# Altium schematic symbol library kmilo17pet-TI_MSP430.SchLib: 1463 symbols (part 109 of 130)
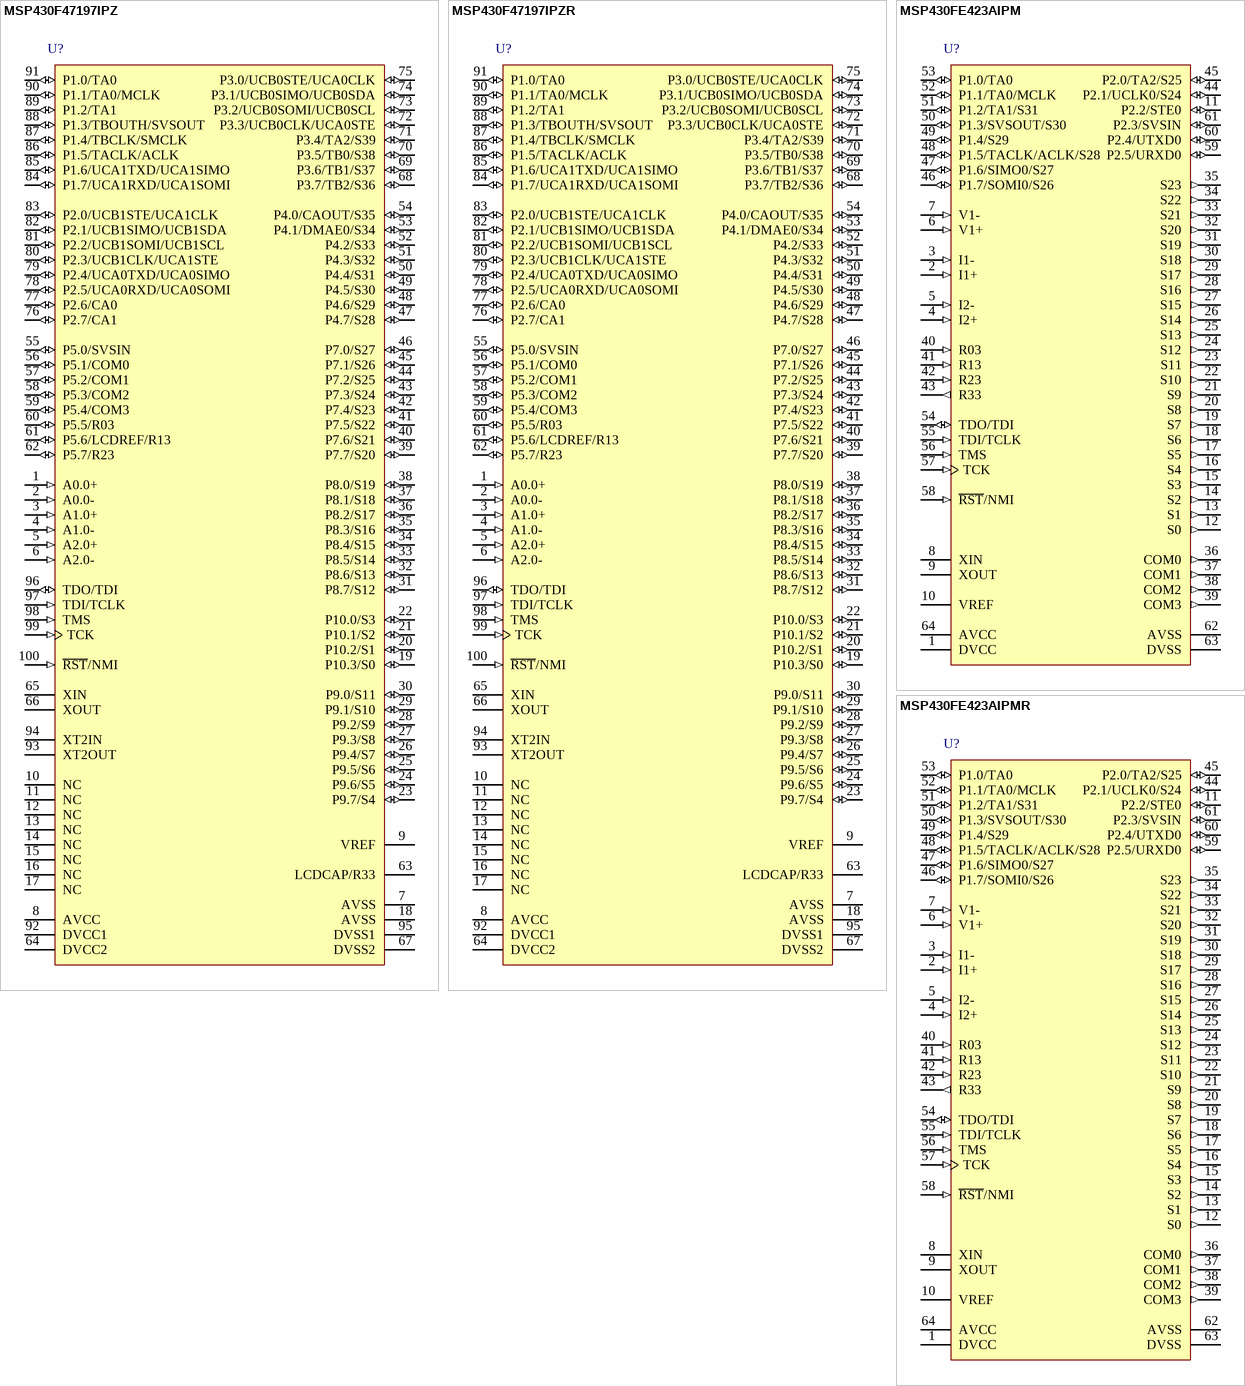
[diagram p290: symbols MSP430F47197IPZ to MSP430FE423AIPMR]

## MSP430FE423AIPMR
designator U?
8 MHz Mixed Signal Microcontroller with 8 KB Flash, 256 B SRAM and 14 GPIOs, -40 to 85 degC, 64-pin QFP (PM), Green (RoHS & no Sb/Br); Manufacturer: Texas Instruments; PartNumber: MSP430FE423AIPMR; ADC: 16-bit Sigma Delta; Brown Out Reset: Yes; Flash(KB): 8; GPIO: 14; LCD Segments: 128; Multiplier: 16x16; SRAM(B): 256; SubFamily: 4 Series with LCD; Timers - 16-bit: 1; DatasheetVersion: SLAS588; PackageVersion: 4040152/C; PackageReference: PM64; PackageDescription: 64-Pin Plastic Quad Flat Pack, Body 10 x 10 mm, Pitch 0.5 mm; Supplier 1: Digi-Key; Supplier Part Number 1: 296-32672-ND; Supplier 2: Newark; Supplier Part Number 2: 84M9627; Supplier 3: Mouser; Supplier Part Number 3: 595-MSP430FE423AIPM; Eco-Plan: Green (RoHS & no Sb/Br); Frequency(MHz): 8; SVS: Yes; USART: 1; Watchdog: Yes; Mounting Technology: Surface Mount; Code_JEDEC: MS-026; ComponentLink1Description: Manufacturer URL; ComponentLink1URL: http://www.ti.com/; ComponentLink2Description: Datasheet; ComponentLink2URL: http://www.ti.com/general/docs/lit/getliterature.tsp?genericPartNumber=MSP430FE423A&fileType=pdf; ComponentLink3Description: Package Specification; ComponentLink3URL: http://www.ti.com/lit/ml/mtqf008a/mtqf008a.pdf
footprint TI-PM64_N (QFP, 64-Leads, Body 10x10mm, Pitch 0.5mm, IPC Medium Density)
pins: 1 DVCC (power) "Digital supply voltage, positive terminal.", 2 I1+ (in) "Current 1 positive analog input. Internal connection to SD16 Channel 0 A0+.", 3 I1- (in) "Current 1 negative analog input. Internal connection to SD16 Channel 0 A0-.", 4 I2+ (in) "Current 2 positive analog input. Internal connection to SD16 Channel 1 A0+.", 5 I2- (in) "Current 2 negative analog input. Internal connection to SD16 Channel 1 A0-.", 6 V1+ (in) "Voltage 1 positive analog input. Internal connection to SD16 Channel 1 A0+.", 7 V1- (in) "Voltage 1 negative analog input. Internal connection to SD16 Channel 1 A0-.", 8 XIN "Input port for crystal oscillator XT1. Standard or watch crystals can be connected.", 9 XOUT "Output terminal of crystal oscillator XT1", 10 VREF "Input for an external reference voltage / internal reference voltage output (can be used as mid-voltage)", 11 P2.2/STE0 (io), 12 S0 (out) "LCD segment output 0", 13 S1 (out) "LCD segment output 1", 14 S2 (out) "LCD segment output 2", 15 S3 (out) "LCD segment output 3", 16 S4 (out) "LCD segment output 4", 17 S5 (out) "LCD segment output 5", 18 S6 (out) "LCD segment output 6", 19 S7 (out) "LCD segment output 7", 20 S8 (out) "LCD segment output 8", 21 S9 (out) "LCD segment output 9", 22 S10 (out) "LCD segment output 10", 23 S11 (out) "LCD segment output 11", 24 S12 (out) "LCD segment output 12", 25 S13 (out) "LCD segment output 13", 26 S14 (out) "LCD segment output 14", 27 S15 (out) "LCD segment output 15", 28 S16 (out) "LCD segment output 16", 29 S17 (out) "LCD segment output 17", 30 S18 (out) "LCD segment output 18", 31 S19 (out) "LCD segment output 19", 32 S20 (out) "LCD segment output 20", 33 S21 (out) "LCD segment output 21", 34 S22 (out) "LCD segment output 22", 35 S23 (out) "LCD segment output 23", 36 COM0 (out) "Common output, COM0-3 are used for LCD backplanes.", 37 COM1 (out) "Common output, COM0-3 are used for LCD backplanes.", 38 COM2 (out) "Common output, COM0-3 are used for LCD backplanes.", 39 COM3 (out) "Common output, COM0-3 are used for LCD backplanes.", 40 R03 (in) "Input port of fourth positive (lowest) analog LCD level (V5)", 41 R13 (in) "Input port of third most positive analog LCD level (V4 or V3)", 42 R23 (in) "Input port of second most positive analog LCD level (V2)", 43 R33 (out) "Output port of most positive analog LCD level (V1)", 44 P2.1/UCLK0/S24 (io), 45 P2.0/TA2/S25 (io), 46 P1.7/SOMI0/S26 (io), 47 P1.6/SIMO0/S27 (io), 48 P1.5/TACLK/ACLK/S28 (io), 49 P1.4/S29 (io), 50 P1.3/SVSOUT/S30 (io), 51 P1.2/TA1/S31 (io), 52 P1.1/TA0/MCLK (io), 53 P1.0/TA0 (io), 54 TDO/TDI (io), 55 TDI/TCLK (in), 56 TMS (in) "Test mode select. TMS is used as an input port for device programming and test.", 57 TCK (in) "Test clock. TCK is the clock input port for device programming and test.", 58 ~{RST}/NMI (in), 59 P2.5/URXD0 (io), 60 P2.4/UTXD0 (io), 61 P2.3/SVSIN (io), 62 AVSS (power) "Analog supply voltage, negative terminal. Supplies SD16, SVS, brownout, oscillator, and LCD resistive divider circuitry.", 63 DVSS (power) "Digital supply voltage, negative terminal", 64 AVCC (power) "Analog supply voltage, positive terminal. Supplies SD16, SVS, brownout, oscillator, and LCD resistive divider circuitry; must not power up prior to DVCC."

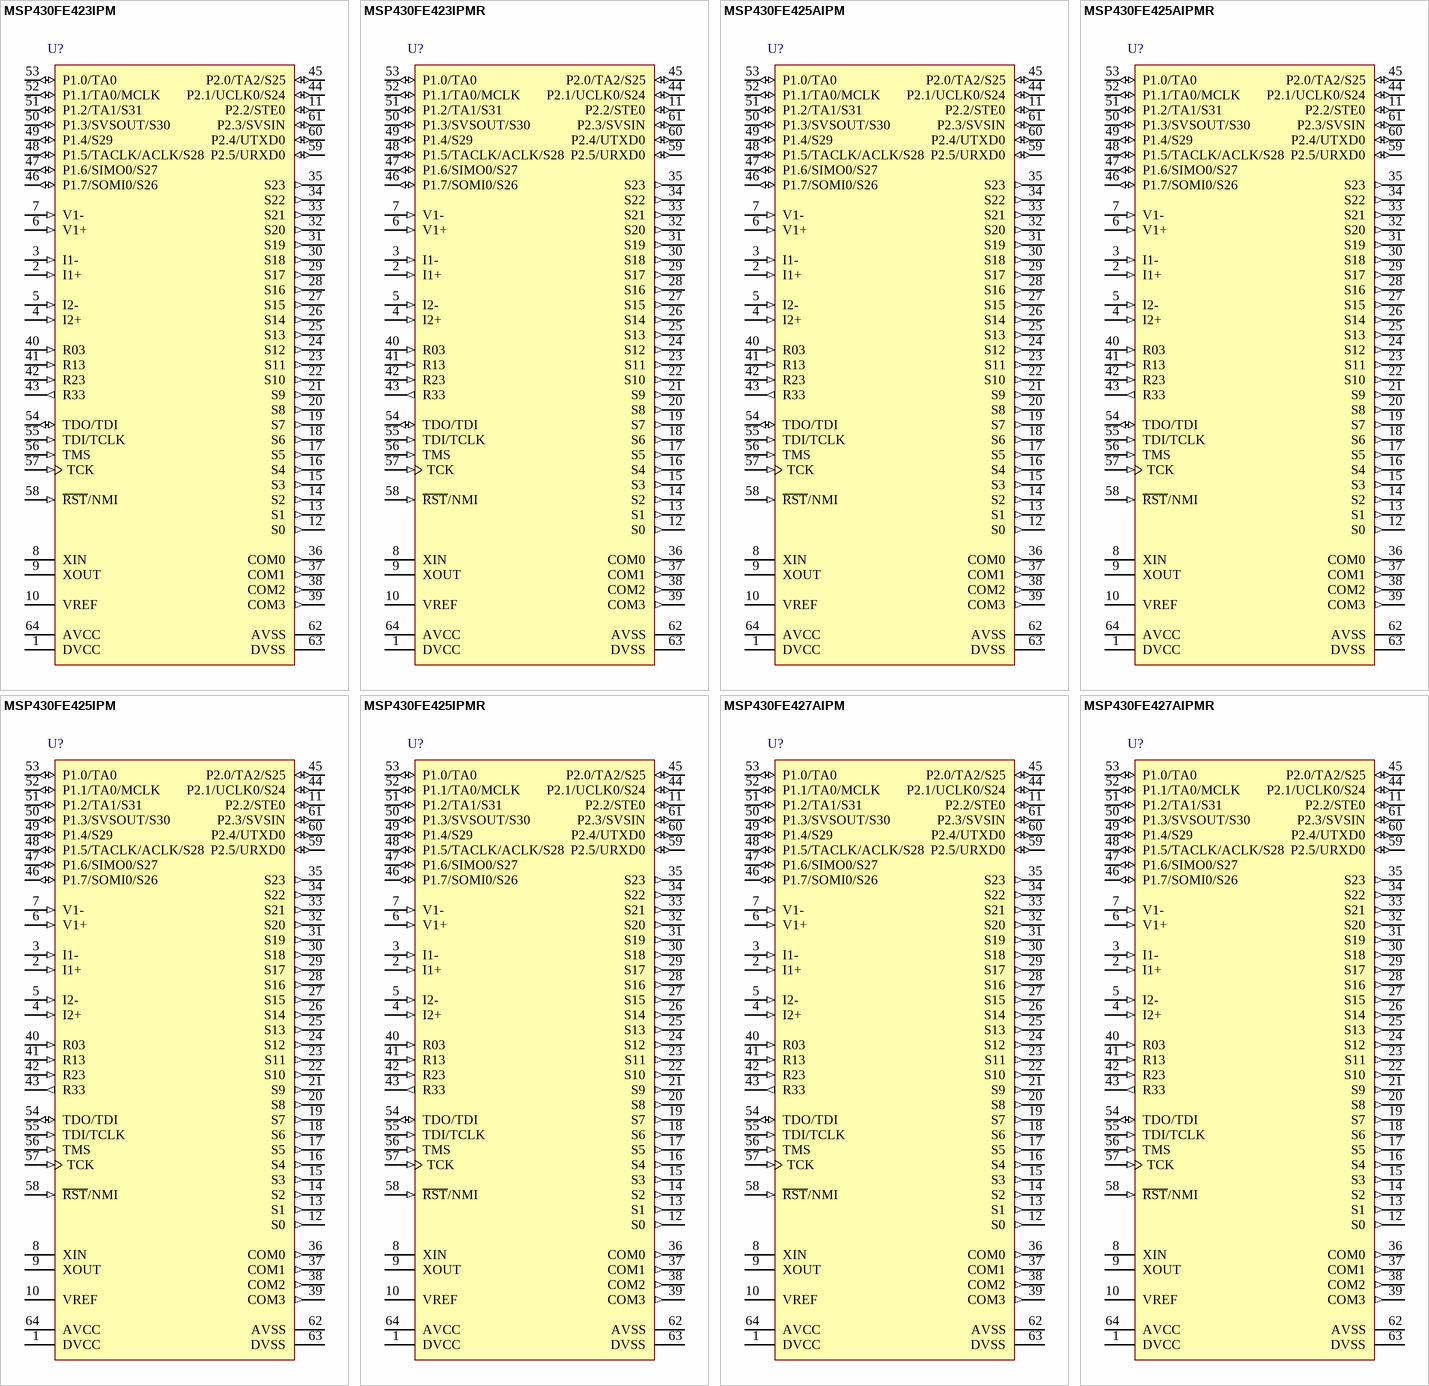
[diagram p184: symbols MSP430FE423IPM to MSP430FE427AIPMR]

## MSP430FE423IPM
designator U?
8 MHz Mixed Signal Microcontroller with 8 KB Flash, 256 B SRAM and 14 GPIOs, -40 to 85 degC, 64-pin QFP (PM), Green (RoHS & no Sb/Br); Manufacturer: Texas Instruments; PartNumber: MSP430FE423IPM; ADC: 16-bit Sigma Delta; Brown Out Reset: Yes; Flash(KB): 8; GPIO: 14; LCD Segments: 128; SRAM(B): 256; SubFamily: 4 Series with LCD; Timers - 16-bit: 1; DatasheetVersion: SLAS396C; PackageVersion: 4040152/C; PackageReference: PM64; PackageDescription: 64-Pin Plastic Quad Flat Pack, Body 10 x 10 mm, Pitch 0.5 mm; Supplier 1: Digi-Key; Supplier Part Number 1: 296-24723-2-ND; Supplier 2: Digi-Key; Supplier Part Number 2: 296-24723-1-ND; Supplier 3: Digi-Key; Supplier Part Number 3: 296-24723-6-ND; Supplier 4: Newark; Supplier Part Number 4: 84M9628; Supplier 5: Mouser; Supplier Part Number 5: 595-MSP430FE423AIPMR; Eco-Plan: Green (RoHS & no Sb/Br); Frequency(MHz): 8; SVS: Yes; Mounting Technology: Surface Mount; Code_JEDEC: MS-026; ComponentLink1Description: Manufacturer URL; ComponentLink1URL: http://www.ti.com/; ComponentLink2Description: Datasheet; ComponentLink2URL: http://www.ti.com/general/docs/lit/getliterature.tsp?genericPartNumber=MSP430FE423&fileType=pdf; ComponentLink3Description: Package Specification; ComponentLink3URL: http://www.ti.com/lit/ml/mtqf008a/mtqf008a.pdf
footprint TI-PM64_N (QFP, 64-Leads, Body 10x10mm, Pitch 0.5mm, IPC Medium Density)
pins: 1 DVCC (power) "Digital supply voltage, positive terminal.", 2 I1+ (in) "Current 1 positive analog input. Internal connection to SD16 Channel 0 A0+.", 3 I1- (in) "Current 1 negative analog input. Internal connection to SD16 Channel 0 A0-.", 4 I2+ (in) "Current 2 positive analog input. Internal connection to SD16 Channel 1 A0+.", 5 I2- (in) "Current 2 negative analog input. Internal connection to SD16 Channel 1 A0-.", 6 V1+ (in) "Voltage 1 positive analog input. Internal connection to SD16 Channel 1 A0+.", 7 V1- (in) "Voltage 1 negative analog input. Internal connection to SD16 Channel 1 A0-.", 8 XIN "Input port for crystal oscillator XT1. Standard or watch crystals can be connected.", 9 XOUT "Output terminal of crystal oscillator XT1", 10 VREF "Input for an external reference voltage / internal reference voltage output (can be used as mid-voltage)", 11 P2.2/STE0 (io), 12 S0 (out) "LCD segment output 0", 13 S1 (out) "LCD segment output 1", 14 S2 (out) "LCD segment output 2", 15 S3 (out) "LCD segment output 3", 16 S4 (out) "LCD segment output 4", 17 S5 (out) "LCD segment output 5", 18 S6 (out) "LCD segment output 6", 19 S7 (out) "LCD segment output 7", 20 S8 (out) "LCD segment output 8", 21 S9 (out) "LCD segment output 9", 22 S10 (out) "LCD segment output 10", 23 S11 (out) "LCD segment output 11", 24 S12 (out) "LCD segment output 12", 25 S13 (out) "LCD segment output 13", 26 S14 (out) "LCD segment output 14", 27 S15 (out) "LCD segment output 15", 28 S16 (out) "LCD segment output 16", 29 S17 (out) "LCD segment output 17", 30 S18 (out) "LCD segment output 18", 31 S19 (out) "LCD segment output 19", 32 S20 (out) "LCD segment output 20", 33 S21 (out) "LCD segment output 21", 34 S22 (out) "LCD segment output 22", 35 S23 (out) "LCD segment output 23", 36 COM0 (out) "Common output, COM0-3 are used for LCD backplanes.", 37 COM1 (out) "Common output, COM0-3 are used for LCD backplanes.", 38 COM2 (out) "Common output, COM0-3 are used for LCD backplanes.", 39 COM3 (out) "Common output, COM0-3 are used for LCD backplanes.", 40 R03 (in) "Input port of fourth positive (lowest) analog LCD level (V5)", 41 R13 (in) "Input port of third most positive analog LCD level (V4 or V3)", 42 R23 (in) "Input port of second most positive analog LCD level (V2)", 43 R33 (out) "Output port of most positive analog LCD level (V1)", 44 P2.1/UCLK0/S24 (io), 45 P2.0/TA2/S25 (io), 46 P1.7/SOMI0/S26 (io), 47 P1.6/SIMO0/S27 (io), 48 P1.5/TACLK/ACLK/S28 (io), 49 P1.4/S29 (io), 50 P1.3/SVSOUT/S30 (io), 51 P1.2/TA1/S31 (io), 52 P1.1/TA0/MCLK (io), 53 P1.0/TA0 (io), 54 TDO/TDI (io), 55 TDI/TCLK (in), 56 TMS (in) "Test mode select. TMS is used as an input port for device programming and test.", 57 TCK (in) "Test clock. TCK is the clock input port for device programming and test.", 58 ~{RST}/NMI (in), 59 P2.5/URXD0 (io), 60 P2.4/UTXD0 (io), 61 P2.3/SVSIN (io), 62 AVSS (power) "Analog supply voltage, negative terminal. Supplies SD16, SVS, brownout, oscillator, and LCD resistive divider circuitry.", 63 DVSS (power) "Digital supply voltage, negative terminal", 64 AVCC (power) "Analog supply voltage, positive terminal. Supplies SD16, SVS, brownout, oscillator, and LCD resistive divider circuitry; must not power up prior to DVCC."

## MSP430FE423IPMR
designator U?
8 MHz Mixed Signal Microcontroller with 8 KB Flash, 256 B SRAM and 14 GPIOs, -40 to 85 degC, 64-pin QFP (PM), Green (RoHS & no Sb/Br); Manufacturer: Texas Instruments; PartNumber: MSP430FE423IPMR; ADC: 16-bit Sigma Delta; Brown Out Reset: Yes; Flash(KB): 8; GPIO: 14; LCD Segments: 128; SRAM(B): 256; SubFamily: 4 Series with LCD; Timers - 16-bit: 1; DatasheetVersion: SLAS396C; PackageVersion: 4040152/C; PackageReference: PM64; PackageDescription: 64-Pin Plastic Quad Flat Pack, Body 10 x 10 mm, Pitch 0.5 mm; Supplier 1: Digi-Key; Supplier Part Number 1: 296-16991-ND; Supplier 2: Mouser; Supplier Part Number 2: 595-430FE423IPM; Eco-Plan: Green (RoHS & no Sb/Br); Frequency(MHz): 8; SVS: Yes; Mounting Technology: Surface Mount; Code_JEDEC: MS-026; ComponentLink1Description: Manufacturer URL; ComponentLink1URL: http://www.ti.com/; ComponentLink2Description: Datasheet; ComponentLink2URL: http://www.ti.com/general/docs/lit/getliterature.tsp?genericPartNumber=MSP430FE423&fileType=pdf; ComponentLink3Description: Package Specification; ComponentLink3URL: http://www.ti.com/lit/ml/mtqf008a/mtqf008a.pdf
footprint TI-PM64_N (QFP, 64-Leads, Body 10x10mm, Pitch 0.5mm, IPC Medium Density)
pins: 1 DVCC (power) "Digital supply voltage, positive terminal.", 2 I1+ (in) "Current 1 positive analog input. Internal connection to SD16 Channel 0 A0+.", 3 I1- (in) "Current 1 negative analog input. Internal connection to SD16 Channel 0 A0-.", 4 I2+ (in) "Current 2 positive analog input. Internal connection to SD16 Channel 1 A0+.", 5 I2- (in) "Current 2 negative analog input. Internal connection to SD16 Channel 1 A0-.", 6 V1+ (in) "Voltage 1 positive analog input. Internal connection to SD16 Channel 1 A0+.", 7 V1- (in) "Voltage 1 negative analog input. Internal connection to SD16 Channel 1 A0-.", 8 XIN "Input port for crystal oscillator XT1. Standard or watch crystals can be connected.", 9 XOUT "Output terminal of crystal oscillator XT1", 10 VREF "Input for an external reference voltage / internal reference voltage output (can be used as mid-voltage)", 11 P2.2/STE0 (io), 12 S0 (out) "LCD segment output 0", 13 S1 (out) "LCD segment output 1", 14 S2 (out) "LCD segment output 2", 15 S3 (out) "LCD segment output 3", 16 S4 (out) "LCD segment output 4", 17 S5 (out) "LCD segment output 5", 18 S6 (out) "LCD segment output 6", 19 S7 (out) "LCD segment output 7", 20 S8 (out) "LCD segment output 8", 21 S9 (out) "LCD segment output 9", 22 S10 (out) "LCD segment output 10", 23 S11 (out) "LCD segment output 11", 24 S12 (out) "LCD segment output 12", 25 S13 (out) "LCD segment output 13", 26 S14 (out) "LCD segment output 14", 27 S15 (out) "LCD segment output 15", 28 S16 (out) "LCD segment output 16", 29 S17 (out) "LCD segment output 17", 30 S18 (out) "LCD segment output 18", 31 S19 (out) "LCD segment output 19", 32 S20 (out) "LCD segment output 20", 33 S21 (out) "LCD segment output 21", 34 S22 (out) "LCD segment output 22", 35 S23 (out) "LCD segment output 23", 36 COM0 (out) "Common output, COM0-3 are used for LCD backplanes.", 37 COM1 (out) "Common output, COM0-3 are used for LCD backplanes.", 38 COM2 (out) "Common output, COM0-3 are used for LCD backplanes.", 39 COM3 (out) "Common output, COM0-3 are used for LCD backplanes.", 40 R03 (in) "Input port of fourth positive (lowest) analog LCD level (V5)", 41 R13 (in) "Input port of third most positive analog LCD level (V4 or V3)", 42 R23 (in) "Input port of second most positive analog LCD level (V2)", 43 R33 (out) "Output port of most positive analog LCD level (V1)", 44 P2.1/UCLK0/S24 (io), 45 P2.0/TA2/S25 (io), 46 P1.7/SOMI0/S26 (io), 47 P1.6/SIMO0/S27 (io), 48 P1.5/TACLK/ACLK/S28 (io), 49 P1.4/S29 (io), 50 P1.3/SVSOUT/S30 (io), 51 P1.2/TA1/S31 (io), 52 P1.1/TA0/MCLK (io), 53 P1.0/TA0 (io), 54 TDO/TDI (io), 55 TDI/TCLK (in), 56 TMS (in) "Test mode select. TMS is used as an input port for device programming and test.", 57 TCK (in) "Test clock. TCK is the clock input port for device programming and test.", 58 ~{RST}/NMI (in), 59 P2.5/URXD0 (io), 60 P2.4/UTXD0 (io), 61 P2.3/SVSIN (io), 62 AVSS (power) "Analog supply voltage, negative terminal. Supplies SD16, SVS, brownout, oscillator, and LCD resistive divider circuitry.", 63 DVSS (power) "Digital supply voltage, negative terminal", 64 AVCC (power) "Analog supply voltage, positive terminal. Supplies SD16, SVS, brownout, oscillator, and LCD resistive divider circuitry; must not power up prior to DVCC."

## MSP430FE425AIPM
designator U?
8 MHz Mixed Signal Microcontroller with 16 KB Flash, 512 B SRAM and 14 GPIOs, -40 to 85 degC, 64-pin QFP (PM), Green (RoHS & no Sb/Br); Manufacturer: Texas Instruments; PartNumber: MSP430FE425AIPM; ADC: 16-bit Sigma Delta; Brown Out Reset: Yes; Flash(KB): 16; Frequency(MHz): 8; GPIO: 14; LCD Segments: 128; Multiplier: 16x16; SRAM(B): 512; SubFamily: 4 Series with LCD; Timers - 16-bit: 1; DatasheetVersion: SLAS588; PackageVersion: 4040152/C; PackageReference: PM64; PackageDescription: 64-Pin Plastic Quad Flat Pack, Body 10 x 10 mm, Pitch 0.5 mm; Supplier 1: Digi-Key; Supplier Part Number 1: 296-23732-2-ND; Supplier 2: Digi-Key; Supplier Part Number 2: 296-23732-1-ND; Supplier 3: Digi-Key; Supplier Part Number 3: 296-23732-6-ND; Supplier 4: Mouser; Supplier Part Number 4: 595-MSP430FE4252IPMR; Eco-Plan: Green (RoHS & no Sb/Br); SVS: Yes; USART: 1; Watchdog: Yes; Mounting Technology: Surface Mount; Code_JEDEC: MS-026; ComponentLink1Description: Manufacturer URL; ComponentLink1URL: http://www.ti.com/; ComponentLink2Description: Datasheet; ComponentLink2URL: http://www.ti.com/general/docs/lit/getliterature.tsp?genericPartNumber=MSP430FE425A&fileType=pdf; ComponentLink3Description: Package Specification; ComponentLink3URL: http://www.ti.com/lit/ml/mtqf008a/mtqf008a.pdf
footprint TI-PM64_N (QFP, 64-Leads, Body 10x10mm, Pitch 0.5mm, IPC Medium Density)
pins: 1 DVCC (power) "Digital supply voltage, positive terminal.", 2 I1+ (in) "Current 1 positive analog input. Internal connection to SD16 Channel 0 A0+.", 3 I1- (in) "Current 1 negative analog input. Internal connection to SD16 Channel 0 A0-.", 4 I2+ (in) "Current 2 positive analog input. Internal connection to SD16 Channel 1 A0+.", 5 I2- (in) "Current 2 negative analog input. Internal connection to SD16 Channel 1 A0-.", 6 V1+ (in) "Voltage 1 positive analog input. Internal connection to SD16 Channel 1 A0+.", 7 V1- (in) "Voltage 1 negative analog input. Internal connection to SD16 Channel 1 A0-.", 8 XIN "Input port for crystal oscillator XT1. Standard or watch crystals can be connected.", 9 XOUT "Output terminal of crystal oscillator XT1", 10 VREF "Input for an external reference voltage / internal reference voltage output (can be used as mid-voltage)", 11 P2.2/STE0 (io), 12 S0 (out) "LCD segment output 0", 13 S1 (out) "LCD segment output 1", 14 S2 (out) "LCD segment output 2", 15 S3 (out) "LCD segment output 3", 16 S4 (out) "LCD segment output 4", 17 S5 (out) "LCD segment output 5", 18 S6 (out) "LCD segment output 6", 19 S7 (out) "LCD segment output 7", 20 S8 (out) "LCD segment output 8", 21 S9 (out) "LCD segment output 9", 22 S10 (out) "LCD segment output 10", 23 S11 (out) "LCD segment output 11", 24 S12 (out) "LCD segment output 12", 25 S13 (out) "LCD segment output 13", 26 S14 (out) "LCD segment output 14", 27 S15 (out) "LCD segment output 15", 28 S16 (out) "LCD segment output 16", 29 S17 (out) "LCD segment output 17", 30 S18 (out) "LCD segment output 18", 31 S19 (out) "LCD segment output 19", 32 S20 (out) "LCD segment output 20", 33 S21 (out) "LCD segment output 21", 34 S22 (out) "LCD segment output 22", 35 S23 (out) "LCD segment output 23", 36 COM0 (out) "Common output, COM0-3 are used for LCD backplanes.", 37 COM1 (out) "Common output, COM0-3 are used for LCD backplanes.", 38 COM2 (out) "Common output, COM0-3 are used for LCD backplanes.", 39 COM3 (out) "Common output, COM0-3 are used for LCD backplanes.", 40 R03 (in) "Input port of fourth positive (lowest) analog LCD level (V5)", 41 R13 (in) "Input port of third most positive analog LCD level (V4 or V3)", 42 R23 (in) "Input port of second most positive analog LCD level (V2)", 43 R33 (out) "Output port of most positive analog LCD level (V1)", 44 P2.1/UCLK0/S24 (io), 45 P2.0/TA2/S25 (io), 46 P1.7/SOMI0/S26 (io), 47 P1.6/SIMO0/S27 (io), 48 P1.5/TACLK/ACLK/S28 (io), 49 P1.4/S29 (io), 50 P1.3/SVSOUT/S30 (io), 51 P1.2/TA1/S31 (io), 52 P1.1/TA0/MCLK (io), 53 P1.0/TA0 (io), 54 TDO/TDI (io), 55 TDI/TCLK (in), 56 TMS (in) "Test mode select. TMS is used as an input port for device programming and test.", 57 TCK (in) "Test clock. TCK is the clock input port for device programming and test.", 58 ~{RST}/NMI (in), 59 P2.5/URXD0 (io), 60 P2.4/UTXD0 (io), 61 P2.3/SVSIN (io), 62 AVSS (power) "Analog supply voltage, negative terminal. Supplies SD16, SVS, brownout, oscillator, and LCD resistive divider circuitry.", 63 DVSS (power) "Digital supply voltage, negative terminal", 64 AVCC (power) "Analog supply voltage, positive terminal. Supplies SD16, SVS, brownout, oscillator, and LCD resistive divider circuitry; must not power up prior to DVCC."

## MSP430FE425AIPMR
designator U?
8 MHz Mixed Signal Microcontroller with 16 KB Flash, 512 B SRAM and 14 GPIOs, -40 to 85 degC, 64-pin QFP (PM), Green (RoHS & no Sb/Br); Manufacturer: Texas Instruments; PartNumber: MSP430FE425AIPMR; ADC: 16-bit Sigma Delta; Brown Out Reset: Yes; Flash(KB): 16; Frequency(MHz): 8; GPIO: 14; LCD Segments: 128; Multiplier: 16x16; SRAM(B): 512; SubFamily: 4 Series with LCD; Timers - 16-bit: 1; DatasheetVersion: SLAS588; PackageVersion: 4040152/C; PackageReference: PM64; PackageDescription: 64-Pin Plastic Quad Flat Pack, Body 10 x 10 mm, Pitch 0.5 mm; Supplier 1: Digi-Key; Supplier Part Number 1: 296-32674-ND; Supplier 2: Newark; Supplier Part Number 2: 84M9629; Supplier 3: Mouser; Supplier Part Number 3: 595-MSP430FE425AIPM; Eco-Plan: Green (RoHS & no Sb/Br); SVS: Yes; USART: 1; Watchdog: Yes; Mounting Technology: Surface Mount; Code_JEDEC: MS-026; ComponentLink1Description: Manufacturer URL; ComponentLink1URL: http://www.ti.com/; ComponentLink2Description: Datasheet; ComponentLink2URL: http://www.ti.com/general/docs/lit/getliterature.tsp?genericPartNumber=MSP430FE425A&fileType=pdf; ComponentLink3Description: Package Specification; ComponentLink3URL: http://www.ti.com/lit/ml/mtqf008a/mtqf008a.pdf
footprint TI-PM64_N (QFP, 64-Leads, Body 10x10mm, Pitch 0.5mm, IPC Medium Density)
pins: 1 DVCC (power) "Digital supply voltage, positive terminal.", 2 I1+ (in) "Current 1 positive analog input. Internal connection to SD16 Channel 0 A0+.", 3 I1- (in) "Current 1 negative analog input. Internal connection to SD16 Channel 0 A0-.", 4 I2+ (in) "Current 2 positive analog input. Internal connection to SD16 Channel 1 A0+.", 5 I2- (in) "Current 2 negative analog input. Internal connection to SD16 Channel 1 A0-.", 6 V1+ (in) "Voltage 1 positive analog input. Internal connection to SD16 Channel 1 A0+.", 7 V1- (in) "Voltage 1 negative analog input. Internal connection to SD16 Channel 1 A0-.", 8 XIN "Input port for crystal oscillator XT1. Standard or watch crystals can be connected.", 9 XOUT "Output terminal of crystal oscillator XT1", 10 VREF "Input for an external reference voltage / internal reference voltage output (can be used as mid-voltage)", 11 P2.2/STE0 (io), 12 S0 (out) "LCD segment output 0", 13 S1 (out) "LCD segment output 1", 14 S2 (out) "LCD segment output 2", 15 S3 (out) "LCD segment output 3", 16 S4 (out) "LCD segment output 4", 17 S5 (out) "LCD segment output 5", 18 S6 (out) "LCD segment output 6", 19 S7 (out) "LCD segment output 7", 20 S8 (out) "LCD segment output 8", 21 S9 (out) "LCD segment output 9", 22 S10 (out) "LCD segment output 10", 23 S11 (out) "LCD segment output 11", 24 S12 (out) "LCD segment output 12", 25 S13 (out) "LCD segment output 13", 26 S14 (out) "LCD segment output 14", 27 S15 (out) "LCD segment output 15", 28 S16 (out) "LCD segment output 16", 29 S17 (out) "LCD segment output 17", 30 S18 (out) "LCD segment output 18", 31 S19 (out) "LCD segment output 19", 32 S20 (out) "LCD segment output 20", 33 S21 (out) "LCD segment output 21", 34 S22 (out) "LCD segment output 22", 35 S23 (out) "LCD segment output 23", 36 COM0 (out) "Common output, COM0-3 are used for LCD backplanes.", 37 COM1 (out) "Common output, COM0-3 are used for LCD backplanes.", 38 COM2 (out) "Common output, COM0-3 are used for LCD backplanes.", 39 COM3 (out) "Common output, COM0-3 are used for LCD backplanes.", 40 R03 (in) "Input port of fourth positive (lowest) analog LCD level (V5)", 41 R13 (in) "Input port of third most positive analog LCD level (V4 or V3)", 42 R23 (in) "Input port of second most positive analog LCD level (V2)", 43 R33 (out) "Output port of most positive analog LCD level (V1)", 44 P2.1/UCLK0/S24 (io), 45 P2.0/TA2/S25 (io), 46 P1.7/SOMI0/S26 (io), 47 P1.6/SIMO0/S27 (io), 48 P1.5/TACLK/ACLK/S28 (io), 49 P1.4/S29 (io), 50 P1.3/SVSOUT/S30 (io), 51 P1.2/TA1/S31 (io), 52 P1.1/TA0/MCLK (io), 53 P1.0/TA0 (io), 54 TDO/TDI (io), 55 TDI/TCLK (in), 56 TMS (in) "Test mode select. TMS is used as an input port for device programming and test.", 57 TCK (in) "Test clock. TCK is the clock input port for device programming and test.", 58 ~{RST}/NMI (in), 59 P2.5/URXD0 (io), 60 P2.4/UTXD0 (io), 61 P2.3/SVSIN (io), 62 AVSS (power) "Analog supply voltage, negative terminal. Supplies SD16, SVS, brownout, oscillator, and LCD resistive divider circuitry.", 63 DVSS (power) "Digital supply voltage, negative terminal", 64 AVCC (power) "Analog supply voltage, positive terminal. Supplies SD16, SVS, brownout, oscillator, and LCD resistive divider circuitry; must not power up prior to DVCC."

## MSP430FE425IPM
designator U?
8 MHz Mixed Signal Microcontroller with 16 KB Flash, 512 B SRAM and 14 GPIOs, -40 to 85 degC, 64-pin QFP (PM), Green (RoHS & no Sb/Br); Manufacturer: Texas Instruments; PartNumber: MSP430FE425IPM; ADC: 16-bit Sigma Delta; Brown Out Reset: Yes; Flash(KB): 16; Frequency(MHz): 8; GPIO: 14; LCD Segments: 128; SRAM(B): 512; SubFamily: 4 Series with LCD; Timers - 16-bit: 1; DatasheetVersion: SLAS396C; PackageVersion: 4040152/C; PackageReference: PM64; PackageDescription: 64-Pin Plastic Quad Flat Pack, Body 10 x 10 mm, Pitch 0.5 mm; Supplier 1: Digi-Key; Supplier Part Number 1: 296-24724-2-ND; Supplier 2: Digi-Key; Supplier Part Number 2: 296-24724-1-ND; Supplier 3: Digi-Key; Supplier Part Number 3: 296-24724-6-ND; Supplier 4: Mouser; Supplier Part Number 4: 595-MSP430FE425AIPMR; Eco-Plan: Green (RoHS & no Sb/Br); SVS: Yes; Mounting Technology: Surface Mount; Code_JEDEC: MS-026; ComponentLink1Description: Manufacturer URL; ComponentLink1URL: http://www.ti.com/; ComponentLink2Description: Datasheet; ComponentLink2URL: http://www.ti.com/general/docs/lit/getliterature.tsp?genericPartNumber=MSP430FE425&fileType=pdf; ComponentLink3Description: Package Specification; ComponentLink3URL: http://www.ti.com/lit/ml/mtqf008a/mtqf008a.pdf
footprint TI-PM64_N (QFP, 64-Leads, Body 10x10mm, Pitch 0.5mm, IPC Medium Density)
pins: 1 DVCC (power) "Digital supply voltage, positive terminal.", 2 I1+ (in) "Current 1 positive analog input. Internal connection to SD16 Channel 0 A0+.", 3 I1- (in) "Current 1 negative analog input. Internal connection to SD16 Channel 0 A0-.", 4 I2+ (in) "Current 2 positive analog input. Internal connection to SD16 Channel 1 A0+.", 5 I2- (in) "Current 2 negative analog input. Internal connection to SD16 Channel 1 A0-.", 6 V1+ (in) "Voltage 1 positive analog input. Internal connection to SD16 Channel 1 A0+.", 7 V1- (in) "Voltage 1 negative analog input. Internal connection to SD16 Channel 1 A0-.", 8 XIN "Input port for crystal oscillator XT1. Standard or watch crystals can be connected.", 9 XOUT "Output terminal of crystal oscillator XT1", 10 VREF "Input for an external reference voltage / internal reference voltage output (can be used as mid-voltage)", 11 P2.2/STE0 (io), 12 S0 (out) "LCD segment output 0", 13 S1 (out) "LCD segment output 1", 14 S2 (out) "LCD segment output 2", 15 S3 (out) "LCD segment output 3", 16 S4 (out) "LCD segment output 4", 17 S5 (out) "LCD segment output 5", 18 S6 (out) "LCD segment output 6", 19 S7 (out) "LCD segment output 7", 20 S8 (out) "LCD segment output 8", 21 S9 (out) "LCD segment output 9", 22 S10 (out) "LCD segment output 10", 23 S11 (out) "LCD segment output 11", 24 S12 (out) "LCD segment output 12", 25 S13 (out) "LCD segment output 13", 26 S14 (out) "LCD segment output 14", 27 S15 (out) "LCD segment output 15", 28 S16 (out) "LCD segment output 16", 29 S17 (out) "LCD segment output 17", 30 S18 (out) "LCD segment output 18", 31 S19 (out) "LCD segment output 19", 32 S20 (out) "LCD segment output 20", 33 S21 (out) "LCD segment output 21", 34 S22 (out) "LCD segment output 22", 35 S23 (out) "LCD segment output 23", 36 COM0 (out) "Common output, COM0-3 are used for LCD backplanes.", 37 COM1 (out) "Common output, COM0-3 are used for LCD backplanes.", 38 COM2 (out) "Common output, COM0-3 are used for LCD backplanes.", 39 COM3 (out) "Common output, COM0-3 are used for LCD backplanes.", 40 R03 (in) "Input port of fourth positive (lowest) analog LCD level (V5)", 41 R13 (in) "Input port of third most positive analog LCD level (V4 or V3)", 42 R23 (in) "Input port of second most positive analog LCD level (V2)", 43 R33 (out) "Output port of most positive analog LCD level (V1)", 44 P2.1/UCLK0/S24 (io), 45 P2.0/TA2/S25 (io), 46 P1.7/SOMI0/S26 (io), 47 P1.6/SIMO0/S27 (io), 48 P1.5/TACLK/ACLK/S28 (io), 49 P1.4/S29 (io), 50 P1.3/SVSOUT/S30 (io), 51 P1.2/TA1/S31 (io), 52 P1.1/TA0/MCLK (io), 53 P1.0/TA0 (io), 54 TDO/TDI (io), 55 TDI/TCLK (in), 56 TMS (in) "Test mode select. TMS is used as an input port for device programming and test.", 57 TCK (in) "Test clock. TCK is the clock input port for device programming and test.", 58 ~{RST}/NMI (in), 59 P2.5/URXD0 (io), 60 P2.4/UTXD0 (io), 61 P2.3/SVSIN (io), 62 AVSS (power) "Analog supply voltage, negative terminal. Supplies SD16, SVS, brownout, oscillator, and LCD resistive divider circuitry.", 63 DVSS (power) "Digital supply voltage, negative terminal", 64 AVCC (power) "Analog supply voltage, positive terminal. Supplies SD16, SVS, brownout, oscillator, and LCD resistive divider circuitry; must not power up prior to DVCC."

## MSP430FE425IPMR
designator U?
8 MHz Mixed Signal Microcontroller with 16 KB Flash, 512 B SRAM and 14 GPIOs, -40 to 85 degC, 64-pin QFP (PM), Green (RoHS & no Sb/Br); Manufacturer: Texas Instruments; PartNumber: MSP430FE425IPMR; ADC: 16-bit Sigma Delta; Brown Out Reset: Yes; Flash(KB): 16; Frequency(MHz): 8; GPIO: 14; LCD Segments: 128; SRAM(B): 512; SubFamily: 4 Series with LCD; Timers - 16-bit: 1; DatasheetVersion: SLAS396C; PackageVersion: 4040152/C; PackageReference: PM64; PackageDescription: 64-Pin Plastic Quad Flat Pack, Body 10 x 10 mm, Pitch 0.5 mm; Supplier 1: Digi-Key; Supplier Part Number 1: 296-16992-ND; Supplier 2: Newark; Supplier Part Number 2: 10J9440; Supplier 3: Mouser; Supplier Part Number 3: 595-430FE425IPM; Eco-Plan: Green (RoHS & no Sb/Br); SVS: Yes; Mounting Technology: Surface Mount; Code_JEDEC: MS-026; ComponentLink1Description: Manufacturer URL; ComponentLink1URL: http://www.ti.com/; ComponentLink2Description: Datasheet; ComponentLink2URL: http://www.ti.com/general/docs/lit/getliterature.tsp?genericPartNumber=MSP430FE425&fileType=pdf; ComponentLink3Description: Package Specification; ComponentLink3URL: http://www.ti.com/lit/ml/mtqf008a/mtqf008a.pdf
footprint TI-PM64_N (QFP, 64-Leads, Body 10x10mm, Pitch 0.5mm, IPC Medium Density)
pins: 1 DVCC (power) "Digital supply voltage, positive terminal.", 2 I1+ (in) "Current 1 positive analog input. Internal connection to SD16 Channel 0 A0+.", 3 I1- (in) "Current 1 negative analog input. Internal connection to SD16 Channel 0 A0-.", 4 I2+ (in) "Current 2 positive analog input. Internal connection to SD16 Channel 1 A0+.", 5 I2- (in) "Current 2 negative analog input. Internal connection to SD16 Channel 1 A0-.", 6 V1+ (in) "Voltage 1 positive analog input. Internal connection to SD16 Channel 1 A0+.", 7 V1- (in) "Voltage 1 negative analog input. Internal connection to SD16 Channel 1 A0-.", 8 XIN "Input port for crystal oscillator XT1. Standard or watch crystals can be connected.", 9 XOUT "Output terminal of crystal oscillator XT1", 10 VREF "Input for an external reference voltage / internal reference voltage output (can be used as mid-voltage)", 11 P2.2/STE0 (io), 12 S0 (out) "LCD segment output 0", 13 S1 (out) "LCD segment output 1", 14 S2 (out) "LCD segment output 2", 15 S3 (out) "LCD segment output 3", 16 S4 (out) "LCD segment output 4", 17 S5 (out) "LCD segment output 5", 18 S6 (out) "LCD segment output 6", 19 S7 (out) "LCD segment output 7", 20 S8 (out) "LCD segment output 8", 21 S9 (out) "LCD segment output 9", 22 S10 (out) "LCD segment output 10", 23 S11 (out) "LCD segment output 11", 24 S12 (out) "LCD segment output 12", 25 S13 (out) "LCD segment output 13", 26 S14 (out) "LCD segment output 14", 27 S15 (out) "LCD segment output 15", 28 S16 (out) "LCD segment output 16", 29 S17 (out) "LCD segment output 17", 30 S18 (out) "LCD segment output 18", 31 S19 (out) "LCD segment output 19", 32 S20 (out) "LCD segment output 20", 33 S21 (out) "LCD segment output 21", 34 S22 (out) "LCD segment output 22", 35 S23 (out) "LCD segment output 23", 36 COM0 (out) "Common output, COM0-3 are used for LCD backplanes.", 37 COM1 (out) "Common output, COM0-3 are used for LCD backplanes.", 38 COM2 (out) "Common output, COM0-3 are used for LCD backplanes.", 39 COM3 (out) "Common output, COM0-3 are used for LCD backplanes.", 40 R03 (in) "Input port of fourth positive (lowest) analog LCD level (V5)", 41 R13 (in) "Input port of third most positive analog LCD level (V4 or V3)", 42 R23 (in) "Input port of second most positive analog LCD level (V2)", 43 R33 (out) "Output port of most positive analog LCD level (V1)", 44 P2.1/UCLK0/S24 (io), 45 P2.0/TA2/S25 (io), 46 P1.7/SOMI0/S26 (io), 47 P1.6/SIMO0/S27 (io), 48 P1.5/TACLK/ACLK/S28 (io), 49 P1.4/S29 (io), 50 P1.3/SVSOUT/S30 (io), 51 P1.2/TA1/S31 (io), 52 P1.1/TA0/MCLK (io), 53 P1.0/TA0 (io), 54 TDO/TDI (io), 55 TDI/TCLK (in), 56 TMS (in) "Test mode select. TMS is used as an input port for device programming and test.", 57 TCK (in) "Test clock. TCK is the clock input port for device programming and test.", 58 ~{RST}/NMI (in), 59 P2.5/URXD0 (io), 60 P2.4/UTXD0 (io), 61 P2.3/SVSIN (io), 62 AVSS (power) "Analog supply voltage, negative terminal. Supplies SD16, SVS, brownout, oscillator, and LCD resistive divider circuitry.", 63 DVSS (power) "Digital supply voltage, negative terminal", 64 AVCC (power) "Analog supply voltage, positive terminal. Supplies SD16, SVS, brownout, oscillator, and LCD resistive divider circuitry; must not power up prior to DVCC."

## MSP430FE427AIPM
designator U?
8 MHz Mixed Signal Microcontroller with 32 KB Flash, 1024 B SRAM and 14 GPIOs, -40 to 85 degC, 64-pin QFP (PM), Green (RoHS & no Sb/Br); Manufacturer: Texas Instruments; PartNumber: MSP430FE427AIPM; ADC: 16-bit Sigma Delta; Brown Out Reset: Yes; Flash(KB): 32; Frequency(MHz): 8; GPIO: 14; LCD Segments: 128; Multiplier: 16x16; SRAM(B): 1024; SubFamily: 4 Series with LCD; Timers - 16-bit: 1; DatasheetVersion: SLAS588; PackageVersion: 4040152/C; PackageReference: PM64; PackageDescription: 64-Pin Plastic Quad Flat Pack, Body 10 x 10 mm, Pitch 0.5 mm; Supplier 1: Digi-Key; Supplier Part Number 1: 296-23733-2-ND; Supplier 2: Digi-Key; Supplier Part Number 2: 296-23733-1-ND; Supplier 3: Digi-Key; Supplier Part Number 3: 296-23733-6-ND; Supplier 4: Newark; Supplier Part Number 4: 07P9594; Supplier 5: Mouser; Supplier Part Number 5: 595-MSP430FE4272IPMR; Eco-Plan: Green (RoHS & no Sb/Br); SVS: Yes; USART: 1; Watchdog: Yes; Mounting Technology: Surface Mount; Code_JEDEC: MS-026; ComponentLink1Description: Manufacturer URL; ComponentLink1URL: http://www.ti.com/; ComponentLink2Description: Datasheet; ComponentLink2URL: http://www.ti.com/general/docs/lit/getliterature.tsp?genericPartNumber=MSP430FE427A&fileType=pdf; ComponentLink3Description: Package Specification; ComponentLink3URL: http://www.ti.com/lit/ml/mtqf008a/mtqf008a.pdf
footprint TI-PM64_N (QFP, 64-Leads, Body 10x10mm, Pitch 0.5mm, IPC Medium Density)
pins: 1 DVCC (power) "Digital supply voltage, positive terminal.", 2 I1+ (in) "Current 1 positive analog input. Internal connection to SD16 Channel 0 A0+.", 3 I1- (in) "Current 1 negative analog input. Internal connection to SD16 Channel 0 A0-.", 4 I2+ (in) "Current 2 positive analog input. Internal connection to SD16 Channel 1 A0+.", 5 I2- (in) "Current 2 negative analog input. Internal connection to SD16 Channel 1 A0-.", 6 V1+ (in) "Voltage 1 positive analog input. Internal connection to SD16 Channel 1 A0+.", 7 V1- (in) "Voltage 1 negative analog input. Internal connection to SD16 Channel 1 A0-.", 8 XIN "Input port for crystal oscillator XT1. Standard or watch crystals can be connected.", 9 XOUT "Output terminal of crystal oscillator XT1", 10 VREF "Input for an external reference voltage / internal reference voltage output (can be used as mid-voltage)", 11 P2.2/STE0 (io), 12 S0 (out) "LCD segment output 0", 13 S1 (out) "LCD segment output 1", 14 S2 (out) "LCD segment output 2", 15 S3 (out) "LCD segment output 3", 16 S4 (out) "LCD segment output 4", 17 S5 (out) "LCD segment output 5", 18 S6 (out) "LCD segment output 6", 19 S7 (out) "LCD segment output 7", 20 S8 (out) "LCD segment output 8", 21 S9 (out) "LCD segment output 9", 22 S10 (out) "LCD segment output 10", 23 S11 (out) "LCD segment output 11", 24 S12 (out) "LCD segment output 12", 25 S13 (out) "LCD segment output 13", 26 S14 (out) "LCD segment output 14", 27 S15 (out) "LCD segment output 15", 28 S16 (out) "LCD segment output 16", 29 S17 (out) "LCD segment output 17", 30 S18 (out) "LCD segment output 18", 31 S19 (out) "LCD segment output 19", 32 S20 (out) "LCD segment output 20", 33 S21 (out) "LCD segment output 21", 34 S22 (out) "LCD segment output 22", 35 S23 (out) "LCD segment output 23", 36 COM0 (out) "Common output, COM0-3 are used for LCD backplanes.", 37 COM1 (out) "Common output, COM0-3 are used for LCD backplanes.", 38 COM2 (out) "Common output, COM0-3 are used for LCD backplanes.", 39 COM3 (out) "Common output, COM0-3 are used for LCD backplanes.", 40 R03 (in) "Input port of fourth positive (lowest) analog LCD level (V5)", 41 R13 (in) "Input port of third most positive analog LCD level (V4 or V3)", 42 R23 (in) "Input port of second most positive analog LCD level (V2)", 43 R33 (out) "Output port of most positive analog LCD level (V1)", 44 P2.1/UCLK0/S24 (io), 45 P2.0/TA2/S25 (io), 46 P1.7/SOMI0/S26 (io), 47 P1.6/SIMO0/S27 (io), 48 P1.5/TACLK/ACLK/S28 (io), 49 P1.4/S29 (io), 50 P1.3/SVSOUT/S30 (io), 51 P1.2/TA1/S31 (io), 52 P1.1/TA0/MCLK (io), 53 P1.0/TA0 (io), 54 TDO/TDI (io), 55 TDI/TCLK (in), 56 TMS (in) "Test mode select. TMS is used as an input port for device programming and test.", 57 TCK (in) "Test clock. TCK is the clock input port for device programming and test.", 58 ~{RST}/NMI (in), 59 P2.5/URXD0 (io), 60 P2.4/UTXD0 (io), 61 P2.3/SVSIN (io), 62 AVSS (power) "Analog supply voltage, negative terminal. Supplies SD16, SVS, brownout, oscillator, and LCD resistive divider circuitry.", 63 DVSS (power) "Digital supply voltage, negative terminal", 64 AVCC (power) "Analog supply voltage, positive terminal. Supplies SD16, SVS, brownout, oscillator, and LCD resistive divider circuitry; must not power up prior to DVCC."

## MSP430FE427AIPMR
designator U?
8 MHz Mixed Signal Microcontroller with 32 KB Flash, 1024 B SRAM and 14 GPIOs, -40 to 85 degC, 64-pin QFP (PM), Green (RoHS & no Sb/Br); Manufacturer: Texas Instruments; PartNumber: MSP430FE427AIPMR; ADC: 16-bit Sigma Delta; Brown Out Reset: Yes; Flash(KB): 32; Frequency(MHz): 8; GPIO: 14; LCD Segments: 128; Multiplier: 16x16; SRAM(B): 1024; SubFamily: 4 Series with LCD; Timers - 16-bit: 1; DatasheetVersion: SLAS588; PackageVersion: 4040152/C; PackageReference: PM64; PackageDescription: 64-Pin Plastic Quad Flat Pack, Body 10 x 10 mm, Pitch 0.5 mm; Supplier 1: Digi-Key; Supplier Part Number 1: 296-32676-ND; Supplier 2: Newark; Supplier Part Number 2: 84M9631; Supplier 3: Mouser; Supplier Part Number 3: 595-MSP430FE427AIPM; Eco-Plan: Green (RoHS & no Sb/Br); SVS: Yes; USART: 1; Watchdog: Yes; Mounting Technology: Surface Mount; Code_JEDEC: MS-026; ComponentLink1Description: Manufacturer URL; ComponentLink1URL: http://www.ti.com/; ComponentLink2Description: Datasheet; ComponentLink2URL: http://www.ti.com/general/docs/lit/getliterature.tsp?genericPartNumber=MSP430FE427A&fileType=pdf; ComponentLink3Description: Package Specification; ComponentLink3URL: http://www.ti.com/lit/ml/mtqf008a/mtqf008a.pdf
footprint TI-PM64_N (QFP, 64-Leads, Body 10x10mm, Pitch 0.5mm, IPC Medium Density)
pins: 1 DVCC (power) "Digital supply voltage, positive terminal.", 2 I1+ (in) "Current 1 positive analog input. Internal connection to SD16 Channel 0 A0+.", 3 I1- (in) "Current 1 negative analog input. Internal connection to SD16 Channel 0 A0-.", 4 I2+ (in) "Current 2 positive analog input. Internal connection to SD16 Channel 1 A0+.", 5 I2- (in) "Current 2 negative analog input. Internal connection to SD16 Channel 1 A0-.", 6 V1+ (in) "Voltage 1 positive analog input. Internal connection to SD16 Channel 1 A0+.", 7 V1- (in) "Voltage 1 negative analog input. Internal connection to SD16 Channel 1 A0-.", 8 XIN "Input port for crystal oscillator XT1. Standard or watch crystals can be connected.", 9 XOUT "Output terminal of crystal oscillator XT1", 10 VREF "Input for an external reference voltage / internal reference voltage output (can be used as mid-voltage)", 11 P2.2/STE0 (io), 12 S0 (out) "LCD segment output 0", 13 S1 (out) "LCD segment output 1", 14 S2 (out) "LCD segment output 2", 15 S3 (out) "LCD segment output 3", 16 S4 (out) "LCD segment output 4", 17 S5 (out) "LCD segment output 5", 18 S6 (out) "LCD segment output 6", 19 S7 (out) "LCD segment output 7", 20 S8 (out) "LCD segment output 8", 21 S9 (out) "LCD segment output 9", 22 S10 (out) "LCD segment output 10", 23 S11 (out) "LCD segment output 11", 24 S12 (out) "LCD segment output 12", 25 S13 (out) "LCD segment output 13", 26 S14 (out) "LCD segment output 14", 27 S15 (out) "LCD segment output 15", 28 S16 (out) "LCD segment output 16", 29 S17 (out) "LCD segment output 17", 30 S18 (out) "LCD segment output 18", 31 S19 (out) "LCD segment output 19", 32 S20 (out) "LCD segment output 20", 33 S21 (out) "LCD segment output 21", 34 S22 (out) "LCD segment output 22", 35 S23 (out) "LCD segment output 23", 36 COM0 (out) "Common output, COM0-3 are used for LCD backplanes.", 37 COM1 (out) "Common output, COM0-3 are used for LCD backplanes.", 38 COM2 (out) "Common output, COM0-3 are used for LCD backplanes.", 39 COM3 (out) "Common output, COM0-3 are used for LCD backplanes.", 40 R03 (in) "Input port of fourth positive (lowest) analog LCD level (V5)", 41 R13 (in) "Input port of third most positive analog LCD level (V4 or V3)", 42 R23 (in) "Input port of second most positive analog LCD level (V2)", 43 R33 (out) "Output port of most positive analog LCD level (V1)", 44 P2.1/UCLK0/S24 (io), 45 P2.0/TA2/S25 (io), 46 P1.7/SOMI0/S26 (io), 47 P1.6/SIMO0/S27 (io), 48 P1.5/TACLK/ACLK/S28 (io), 49 P1.4/S29 (io), 50 P1.3/SVSOUT/S30 (io), 51 P1.2/TA1/S31 (io), 52 P1.1/TA0/MCLK (io), 53 P1.0/TA0 (io), 54 TDO/TDI (io), 55 TDI/TCLK (in), 56 TMS (in) "Test mode select. TMS is used as an input port for device programming and test.", 57 TCK (in) "Test clock. TCK is the clock input port for device programming and test.", 58 ~{RST}/NMI (in), 59 P2.5/URXD0 (io), 60 P2.4/UTXD0 (io), 61 P2.3/SVSIN (io), 62 AVSS (power) "Analog supply voltage, negative terminal. Supplies SD16, SVS, brownout, oscillator, and LCD resistive divider circuitry.", 63 DVSS (power) "Digital supply voltage, negative terminal", 64 AVCC (power) "Analog supply voltage, positive terminal. Supplies SD16, SVS, brownout, oscillator, and LCD resistive divider circuitry; must not power up prior to DVCC."

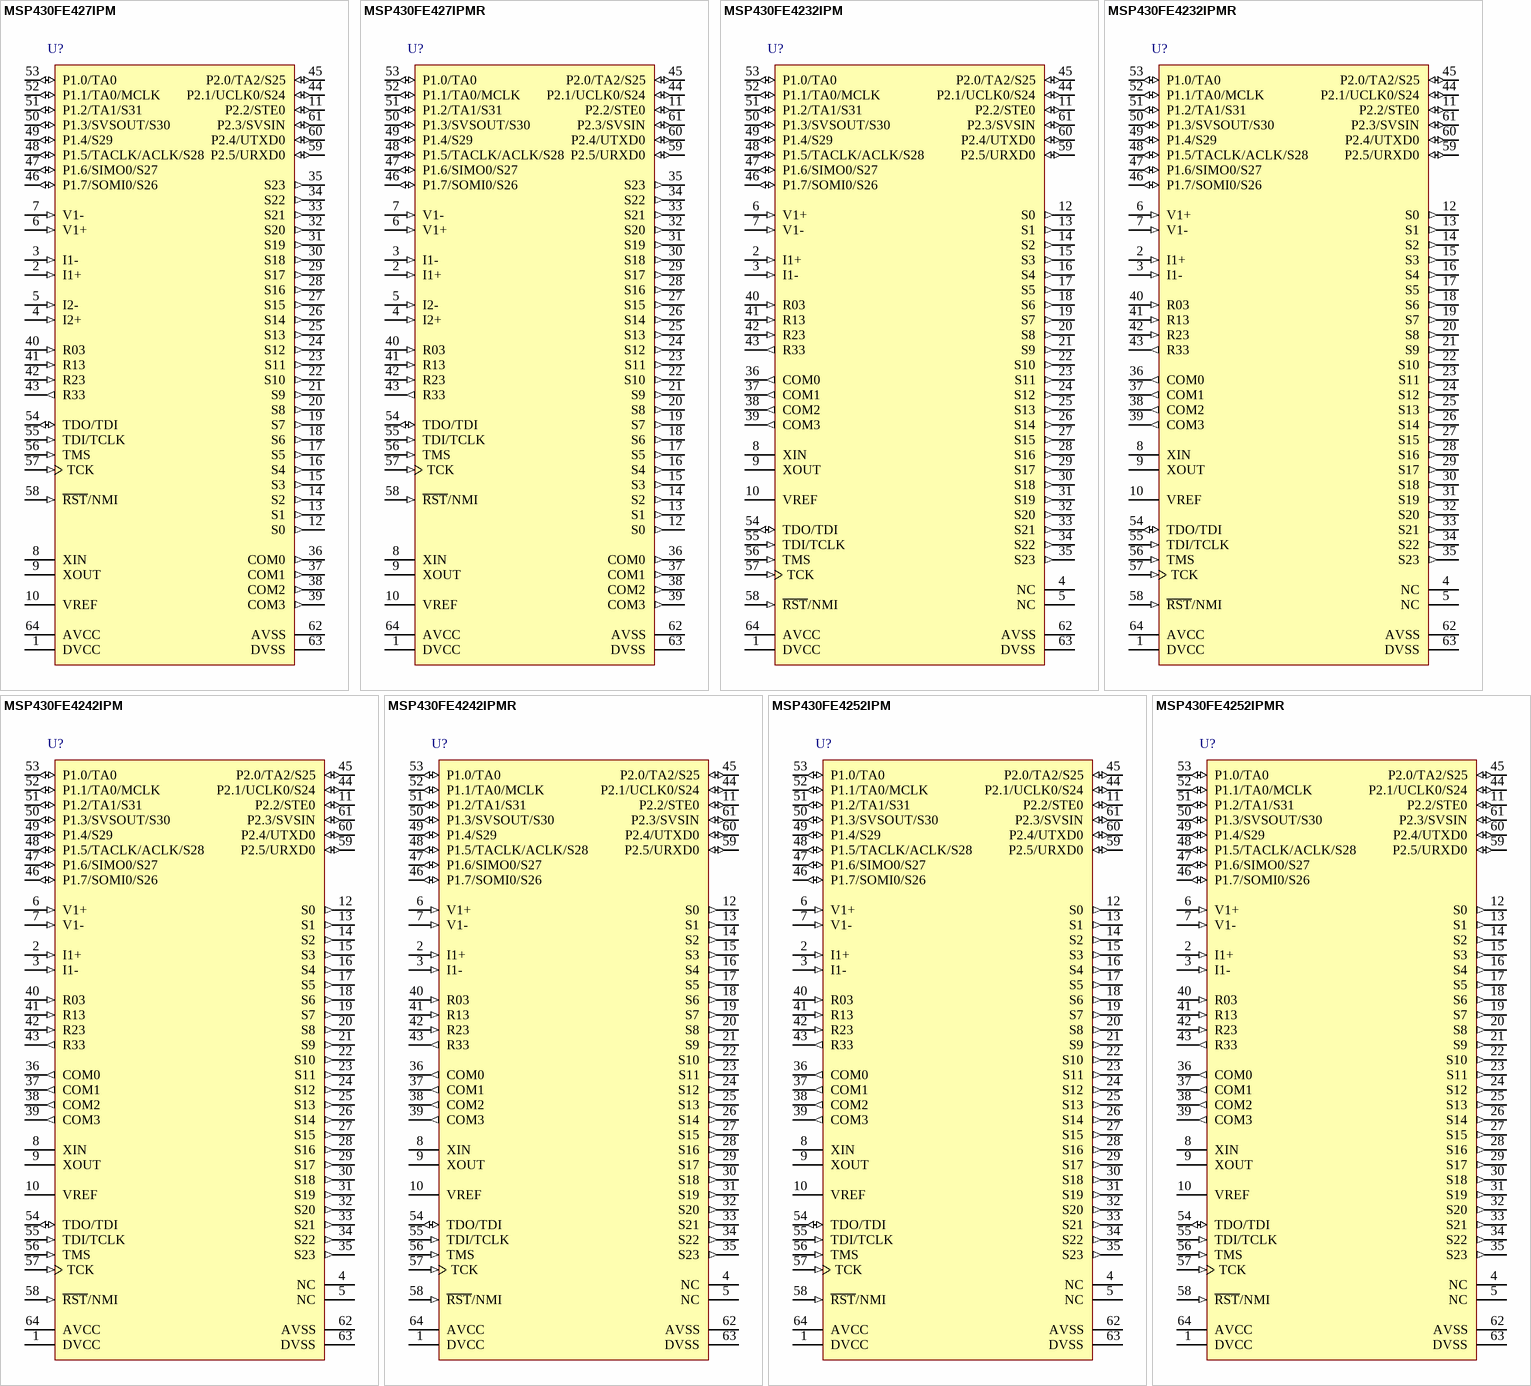
[diagram p185: symbols MSP430FE427IPM to MSP430FE4252IPMR]

## MSP430FE427IPM
designator U?
8 MHz Mixed Signal Microcontroller with 32 KB Flash, 1024 B SRAM and 14 GPIOs, -40 to 85 degC, 64-pin QFP (PM), Green (RoHS & no Sb/Br); Manufacturer: Texas Instruments; PartNumber: MSP430FE427IPM; ADC: 16-bit Sigma Delta; Brown Out Reset: Yes; Flash(KB): 32; Frequency(MHz): 8; GPIO: 14; LCD Segments: 128; SRAM(B): 1024; SubFamily: 4 Series with LCD; Timers - 16-bit: 1; DatasheetVersion: SLAS396C; PackageVersion: 4040152/C; PackageReference: PM64; PackageDescription: 64-Pin Plastic Quad Flat Pack, Body 10 x 10 mm, Pitch 0.5 mm; Supplier 1: Digi-Key; Supplier Part Number 1: 296-24725-2-ND; Supplier 2: Digi-Key; Supplier Part Number 2: 296-24725-1-ND; Supplier 3: Digi-Key; Supplier Part Number 3: 296-24725-6-ND; Supplier 4: Newark; Supplier Part Number 4: 84M9632; Supplier 5: Mouser; Supplier Part Number 5: 595-MSP430FE427AIPMR; Eco-Plan: Green (RoHS & no Sb/Br); SVS: Yes; Mounting Technology: Surface Mount; Code_JEDEC: MS-026; ComponentLink1Description: Manufacturer URL; ComponentLink1URL: http://www.ti.com/; ComponentLink2Description: Datasheet; ComponentLink2URL: http://www.ti.com/general/docs/lit/getliterature.tsp?genericPartNumber=MSP430FE427&fileType=pdf; ComponentLink3Description: Package Specification; ComponentLink3URL: http://www.ti.com/lit/ml/mtqf008a/mtqf008a.pdf
footprint TI-PM64_N (QFP, 64-Leads, Body 10x10mm, Pitch 0.5mm, IPC Medium Density)
pins: 1 DVCC (power) "Digital supply voltage, positive terminal.", 2 I1+ (in) "Current 1 positive analog input. Internal connection to SD16 Channel 0 A0+.", 3 I1- (in) "Current 1 negative analog input. Internal connection to SD16 Channel 0 A0-.", 4 I2+ (in) "Current 2 positive analog input. Internal connection to SD16 Channel 1 A0+.", 5 I2- (in) "Current 2 negative analog input. Internal connection to SD16 Channel 1 A0-.", 6 V1+ (in) "Voltage 1 positive analog input. Internal connection to SD16 Channel 1 A0+.", 7 V1- (in) "Voltage 1 negative analog input. Internal connection to SD16 Channel 1 A0-.", 8 XIN "Input port for crystal oscillator XT1. Standard or watch crystals can be connected.", 9 XOUT "Output terminal of crystal oscillator XT1", 10 VREF "Input for an external reference voltage / internal reference voltage output (can be used as mid-voltage)", 11 P2.2/STE0 (io), 12 S0 (out) "LCD segment output 0", 13 S1 (out) "LCD segment output 1", 14 S2 (out) "LCD segment output 2", 15 S3 (out) "LCD segment output 3", 16 S4 (out) "LCD segment output 4", 17 S5 (out) "LCD segment output 5", 18 S6 (out) "LCD segment output 6", 19 S7 (out) "LCD segment output 7", 20 S8 (out) "LCD segment output 8", 21 S9 (out) "LCD segment output 9", 22 S10 (out) "LCD segment output 10", 23 S11 (out) "LCD segment output 11", 24 S12 (out) "LCD segment output 12", 25 S13 (out) "LCD segment output 13", 26 S14 (out) "LCD segment output 14", 27 S15 (out) "LCD segment output 15", 28 S16 (out) "LCD segment output 16", 29 S17 (out) "LCD segment output 17", 30 S18 (out) "LCD segment output 18", 31 S19 (out) "LCD segment output 19", 32 S20 (out) "LCD segment output 20", 33 S21 (out) "LCD segment output 21", 34 S22 (out) "LCD segment output 22", 35 S23 (out) "LCD segment output 23", 36 COM0 (out) "Common output, COM0-3 are used for LCD backplanes.", 37 COM1 (out) "Common output, COM0-3 are used for LCD backplanes.", 38 COM2 (out) "Common output, COM0-3 are used for LCD backplanes.", 39 COM3 (out) "Common output, COM0-3 are used for LCD backplanes.", 40 R03 (in) "Input port of fourth positive (lowest) analog LCD level (V5)", 41 R13 (in) "Input port of third most positive analog LCD level (V4 or V3)", 42 R23 (in) "Input port of second most positive analog LCD level (V2)", 43 R33 (out) "Output port of most positive analog LCD level (V1)", 44 P2.1/UCLK0/S24 (io), 45 P2.0/TA2/S25 (io), 46 P1.7/SOMI0/S26 (io), 47 P1.6/SIMO0/S27 (io), 48 P1.5/TACLK/ACLK/S28 (io), 49 P1.4/S29 (io), 50 P1.3/SVSOUT/S30 (io), 51 P1.2/TA1/S31 (io), 52 P1.1/TA0/MCLK (io), 53 P1.0/TA0 (io), 54 TDO/TDI (io), 55 TDI/TCLK (in), 56 TMS (in) "Test mode select. TMS is used as an input port for device programming and test.", 57 TCK (in) "Test clock. TCK is the clock input port for device programming and test.", 58 ~{RST}/NMI (in), 59 P2.5/URXD0 (io), 60 P2.4/UTXD0 (io), 61 P2.3/SVSIN (io), 62 AVSS (power) "Analog supply voltage, negative terminal. Supplies SD16, SVS, brownout, oscillator, and LCD resistive divider circuitry.", 63 DVSS (power) "Digital supply voltage, negative terminal", 64 AVCC (power) "Analog supply voltage, positive terminal. Supplies SD16, SVS, brownout, oscillator, and LCD resistive divider circuitry; must not power up prior to DVCC."